# Altium schematic symbol library Module.SchLib: 13 symbols
Pins are listed as number, name and electrical type; pins without a type are passive.

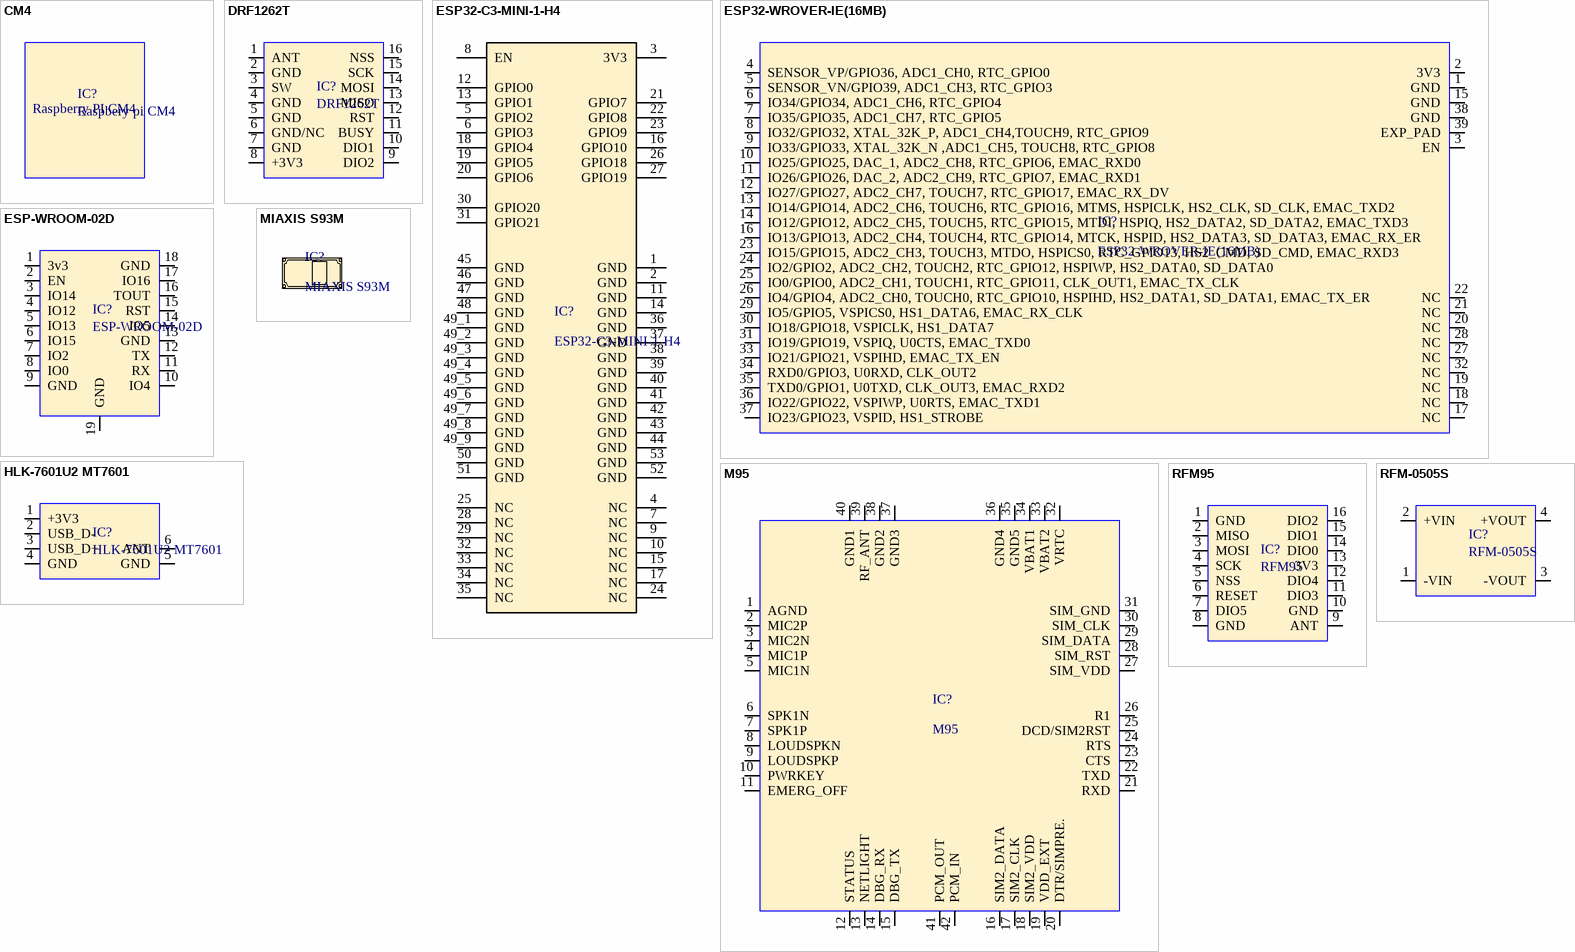
[diagram p0: symbols CM4 to RFM-0505S]

## CM4
designator IC?, comment Raspbery pi CM4
Purpose Of Usage: BASIC; Category: MODULE; Mount: MECH; Stock ID: ??; Sub-Category: SOM
footprint CM4_BOARD_SIDE
text: Raspberry PI CM4

## DRF1262T
designator IC?
SX1262 LORA MODUL DORJI; Purpose Of Usage: BASIC; Category: MODULE; Mount: SMD; Stock ID: ??; Sub-Category: LO-RA MODUL
footprint DRF1262T
pins: 1 ANT, 2 GND, 3 SW, 4 GND, 5 GND, 6 GND/NC, 7 GND, 8 +3V3, 9 DIO2, 10 DIO1, 11 BUSY, 12 RST, 13 MISO, 14 MOSI, 15 SCK, 16 NSS

## ESP32-C3-MINI-1-H4
designator IC?
Multiprotocol Modules SMD module, ESP32-C3FH4, PCB antenna, -40 C +105 C; Manufacturer: Espressif Systems; Purpose Of Usage: BASIC; Manufacturer Part Number: ESP32-C3-MINI-1-H4; Category: MODULE; Local Supplier: FUTURE; Max Operating Temperature: 105°C; Min Operating Temperature: -40°C; Mount: SMD; Price 10K: 1.5; RoHS: Yes; Stock ID: ??; Sub-Category: WI-FI MODUL; Supplier 1: Digi-Key; Supplier Part Number 1: 1965-ESP32-C3-MINI-1-H4CT-ND
footprint ESP32-C3-MINI-1-N4
pins: 1 GND (power), 2 GND (power), 3 3V3 (power), 4 NC, 5 GPIO2, 6 GPIO3, 7 NC, 8 EN, 9 NC, 10 NC, 11 GND (power), 12 GPIO0, 13 GPIO1, 14 GND (power), 15 NC, 16 GPIO10, 17 NC, 18 GPIO4, 19 GPIO5, 20 GPIO6, 21 GPIO7, 22 GPIO8, 23 GPIO9, 24 NC, 25 NC, 26 GPIO18, 27 GPIO19, 28 NC, 29 NC, 30 GPIO20, 31 GPIO21, 32 NC, 33 NC, 34 NC, 35 NC, 36 GND (power), 37 GND (power), 38 GND (power), 39 GND (power), 40 GND (power), 41 GND (power), 42 GND (power), 43 GND (power), 44 GND (power), 45 GND (power), 46 GND (power), 47 GND (power), 48 GND (power), 49_1 GND (power), 49_2 GND (power), 49_3 GND (power), 49_4 GND (power), 49_5 GND (power), 49_6 GND (power), 49_7 GND (power), 49_8 GND (power), 49_9 GND (power), 50 GND (power), 51 GND (power), 52 GND (power), 53 GND (power)

## ESP32-WROVER-IE(16MB)
designator IC?
Manufacturer: Espressif Systems; Purpose Of Usage: BASIC; Supplier 1: Digi-Key; Manufacturer Part Number: ESP32-WROVER-IE(16MB); RoHS: No; Supplier Part Number 1: 1965-ESP32-WROVER-IE(16MB)DKR-ND; Category: MODULE; Mount: SMD; Stock ID: ??; Sub-Category: WI-FI MODUL
footprint ESP32_WROVER-IE (ESP32-WROVER-IE)
pins: 1 GND, 2 3V3, 3 EN, 4 SENSOR_VP/GPIO36, ADC1_CH0, RTC_GPIO0, 5 SENSOR_VN/GPIO39, ADC1_CH3, RTC_GPIO3, 6 IO34/GPIO34, ADC1_CH6, RTC_GPIO4, 7 IO35/GPIO35, ADC1_CH7, RTC_GPIO5, 8 IO32/GPIO32, XTAL_32K_P, ADC1_CH4,TOUCH9, RTC_GPIO9, 9 IO33/GPIO33, XTAL_32K_N ,ADC1_CH5, TOUCH8, RTC_GPIO8, 10 IO25/GPIO25, DAC_1, ADC2_CH8, RTC_GPIO6, EMAC_RXD0, 11 IO26/GPIO26, DAC_2, ADC2_CH9, RTC_GPIO7, EMAC_RXD1, 12 IO27/GPIO27, ADC2_CH7, TOUCH7, RTC_GPIO17, EMAC_RX_DV, 13 IO14/GPIO14, ADC2_CH6, TOUCH6, RTC_GPIO16, MTMS, HSPICLK, HS2_CLK, SD_CLK, EMAC_TXD2, 14 IO12/GPIO12, ADC2_CH5, TOUCH5, RTC_GPIO15, MTDI, HSPIQ, HS2_DATA2, SD_DATA2, EMAC_TXD3, 15 GND, 16 IO13/GPIO13, ADC2_CH4, TOUCH4, RTC_GPIO14, MTCK, HSPID, HS2_DATA3, SD_DATA3, EMAC_RX_ER, 17 NC, 18 NC, 19 NC, 20 NC, 21 NC, 22 NC, 23 IO15/GPIO15, ADC2_CH3, TOUCH3, MTDO, HSPICS0, RTC_GPIO13, HS2_CMD, SD_CMD, EMAC_RXD3, 24 IO2/GPIO2, ADC2_CH2, TOUCH2, RTC_GPIO12, HSPIWP, HS2_DATA0, SD_DATA0, 25 IO0/GPIO0, ADC2_CH1, TOUCH1, RTC_GPIO11, CLK_OUT1, EMAC_TX_CLK, 26 IO4/GPIO4, ADC2_CH0, TOUCH0, RTC_GPIO10, HSPIHD, HS2_DATA1, SD_DATA1, EMAC_TX_ER, 27 NC, 28 NC, 29 IO5/GPIO5, VSPICS0, HS1_DATA6, EMAC_RX_CLK, 30 IO18/GPIO18, VSPICLK, HS1_DATA7, 31 IO19/GPIO19, VSPIQ, U0CTS, EMAC_TXD0, 32 NC, 33 IO21/GPIO21, VSPIHD, EMAC_TX_EN, 34 RXD0/GPIO3, U0RXD, CLK_OUT2, 35 TXD0/GPIO1, U0TXD, CLK_OUT3, EMAC_RXD2, 36 IO22/GPIO22, VSPIWP, U0RTS, EMAC_TXD1, 37 IO23/GPIO23, VSPID, HS1_STROBE, 38 GND, 39 EXP_PAD

## ESP-WROOM-02D
designator IC?
Manufacturer: Espressif Systems; Manufacturer Part Number: ESP-WROOM-02D (4MB); Purpose Of Usage: BASIC; Supplier 1: Digi-Key; RoHS: No; Supplier Part Number 1: 1965-ESP-WROOM-02D(4MB)CT-ND; Category: MODULE; Mount: SMD; Stock ID: ??; Sub-Category: WI-FI MODUL
footprint ESP-WROOM-02D
pins: 1 3v3, 2 EN, 3 IO14, 4 IO12, 5 IO13, 6 IO15, 7 IO2, 8 IO0, 9 GND, 10 IO4, 11 RX, 12 TX, 13 GND, 14 IO5, 15 RST, 16 TOUT, 17 IO16, 18 GND, 19 GND

## HLK-7601U2 MT7601
designator IC?
USB WIFI; Purpose Of Usage: BASIC; Category: MODULE; Mount: SMD; Stock ID: ??; Sub-Category: USB to  WI-FI MODULE
footprint HLK-7601U2 (USB WIFI)
pins: 1 +3V3, 2 USB_D-, 3 USB_D+, 4 GND, 5 GND, 6 ANT

## M95
designator IC?
GSM MODEM; Manufacturer: Quectel Wireless Solutions; Manufacturer Part Number: M95FA-03-STD; Purpose Of Usage: BASIC; RoHS: Yes; Case/Package: LCC; Min Operating Temperature: -40°C; Max Operating Temperature: 85°C; Category: MODULE; Mount: SMD; Stock ID: ??; Sub-Category: GSM MODEM
footprint M95
pins: 1 AGND, 2 MIC2P, 3 MIC2N, 4 MIC1P, 5 MIC1N, 6 SPK1N, 7 SPK1P, 8 LOUDSPKN, 9 LOUDSPKP, 10 PWRKEY, 11 EMERG_OFF, 12 STATUS, 13 NETLIGHT, 14 DBG_RX, 15 DBG_TX, 16 SIM2_DATA, 17 SIM2_CLK, 18 SIM2_VDD, 19 VDD_EXT, 20 DTR/SIMPRE., 21 RXD, 22 TXD, 23 CTS, 24 RTS, 25 DCD/SIM2RST, 26 R1, 27 SIM_VDD, 28 SIM_RST, 29 SIM_DATA, 30 SIM_CLK, 31 SIM_GND, 32 VRTC, 33 VBAT2, 34 VBAT1, 35 GND5, 36 GND4, 37 GND3, 38 GND2, 39 RF_ANT, 40 GND1, 41 PCM_OUT, 42 PCM_IN

## MIAXIS S93M
designator IC?
FAP30 Finger Print Sensor; Manufacturer Part Number: SM-93M; Purpose Of Usage: BASIC; Category: MODULE; Local Supplier: MIAXIS; Manufacturer: MIAXIS; Mount: MECH; Price 10K: 39.5; Stock ID: ??; Sub-Category: FINGER PRINT SENSOR
footprint MIAXIS S93M

## RFM95
designator IC?
RFM95 ULTRA-LONG RANGE TRANSCEIV; Manufacturer: Seeed Studio; Manufacturer Part Number: 109990166; Purpose Of Usage: BASIC; Supplier 1: Digi-Key; RoHS: No; Supplier Part Number 1: 1597-1488-ND; Category: MODULE; Mount: SMD; Stock ID: ??; Sub-Category: LO-RA MODUL
footprint RFM95
pins: 1 GND, 2 MISO, 3 MOSI, 4 SCK, 5 NSS, 6 RESET, 7 DIO5, 8 GND, 9 ANT, 10 GND, 11 DIO3, 12 DIO4, 13 3V3, 14 DIO0, 15 DIO1, 16 DIO2

## RFM-0505S
designator IC?
RECOM POWER - RFM-0505S - Isolated Board Mount DC/DC Converter, ITE & General, 1 Output, 1 W, 5 V, 200 mA; Purpose Of Usage: BASIC; Supplier 1: Digi-Key; Manufacturer: Recom; Manufacturer Part Number: RFM-0505S; RoHS: No; Supplier Part Number 1: 945-3159-ND; Category: MODULE; Mount: SMD; Stock ID: ??; Sub-Category: DC-DC CONVERTERS
footprint RFM-0505S (dc-dc modul)
pins: 1 -VIN, 2 +VIN, 3 -VOUT, 4 +VOUT

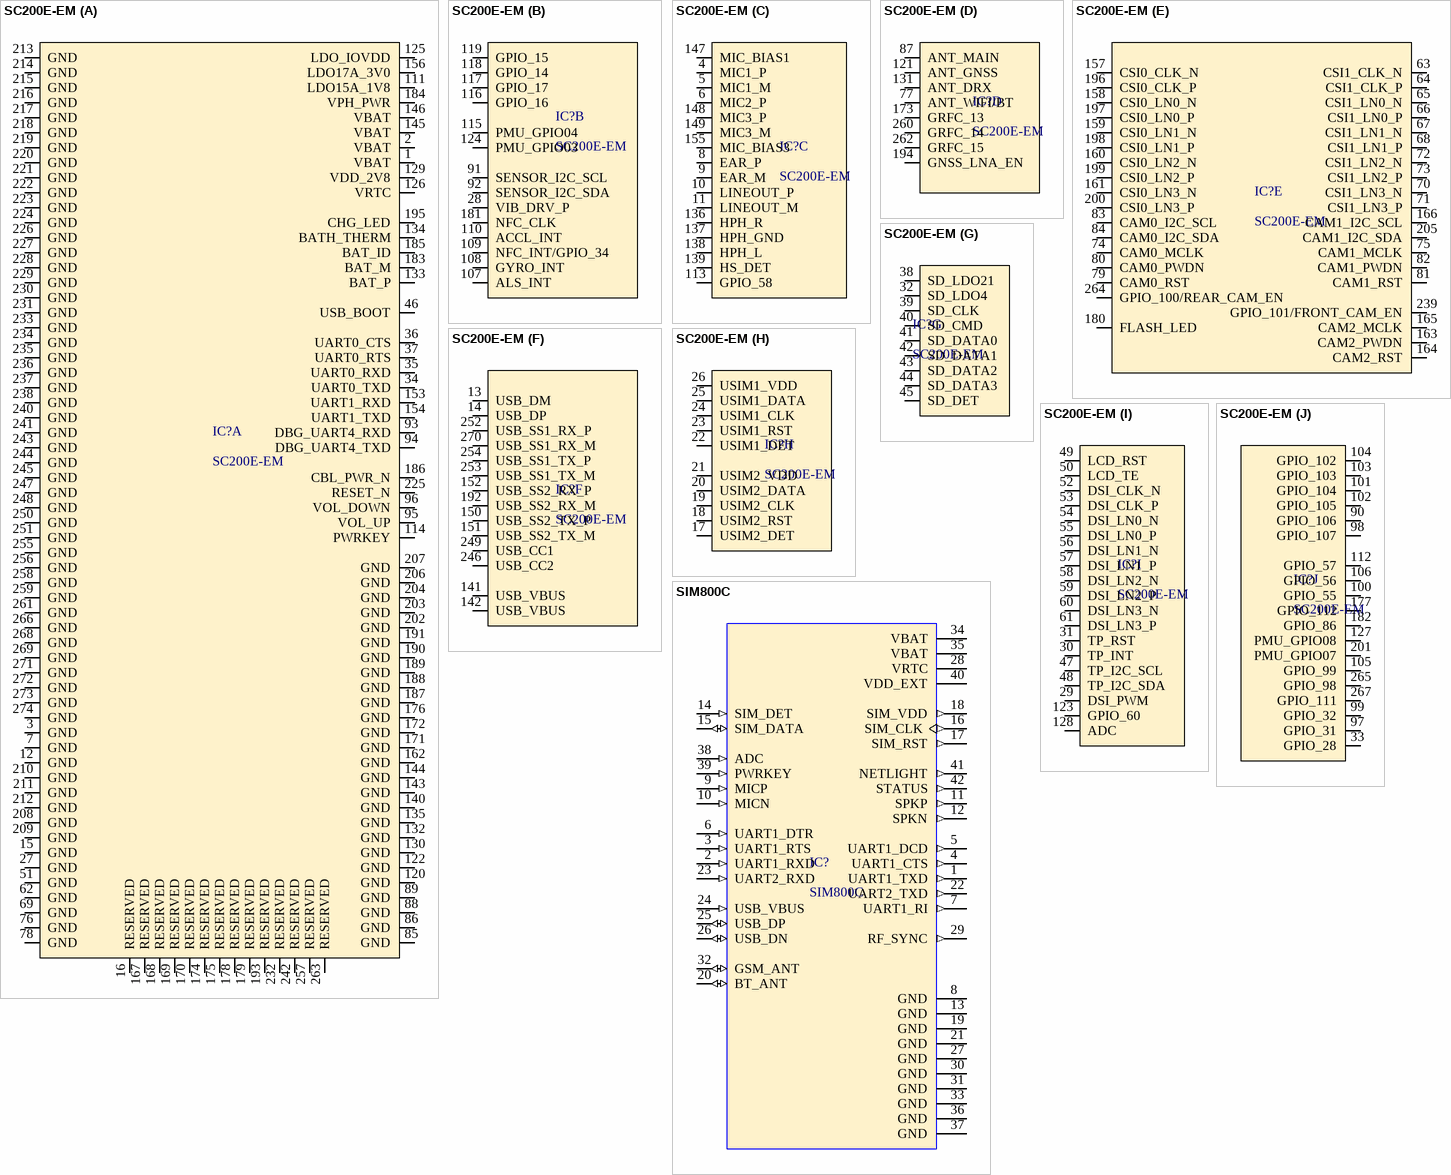
[diagram p1: symbols SC200E-EM to SIM800C]

## SC200E-EM
designator IC?
Multi-mode Smart LTE Module / with Wi-Fi & Bluetooth; Manufacturer: Quectel; Purpose Of Usage: BASIC; Category: MODULE; Manufacturer Part Number: SC200E-EM; Mount: SMD; Stock ID: ??; Local Supplier: AVNET; Price 10K: 42; Sub-Category: SOM
footprint SC200E
part A pins: 1 VBAT (power) "Power supply for the / module", 2 VBAT (power) "Power supply for the / module", 3 GND (power) "Ground", 7 GND (power) "Ground", 12 GND (power) "Ground", 15 GND (power) "Ground", 16 RESERVED "Unconnected", 27 GND (power) "Ground", 34 UART0_TXD "UART0 transmit", 35 UART0_RXD "UART0 receive", 36 UART0_CTS "DCE clear to send signal from DTE", 37 UART0_RTS "DCE request to send signal to DTE", 46 USB_BOOT "Force the module into emergency download mode", 51 GND (power) "Ground", 62 GND (power) "Ground", 69 GND (power) "Ground", 76 GND (power) "Ground", 78 GND (power) "Ground", 85 GND (power) "Ground", 86 GND (power) "Ground", 88 GND (power) "Ground", 89 GND (power) "Ground", 93 DBG_UART4_RXD "Debug UART receive", 94 DBG_UART4_TXD "Debug UART transmit", 95 VOL_UP "Volume up", 96 VOL_DOWN "Volume down", 111 LDO15A_1V8 (power) "1.8 V output", 114 PWRKEY "Turn on/off the module", 120 GND (power) "Ground", 122 GND (power) "Ground", 125 LDO_IOVDD (power) "1.8V Output", 126 VRTC (power) "Power supply for RTC", 129 VDD_2V8 (power) "2.8 V output", 130 GND (power) "Ground", 132 GND (power) "Ground", 133 BAT_P "Battery voltage detect (+)", 134 BATH_THERM "Battery temperature detech", 135 GND (power) "Ground", 140 GND (power) "Ground", 143 GND (power) "Ground", 144 GND (power) "Ground", 145 VBAT (power) "Power supply for the / module", 146 VBAT (power) "Power supply for the / module", 153 UART1_RXD "UART1 receive", 154 UART1_TXD "UART1 transmit", 156 LDO17A_3V0 (power) "3.0 V output", 162 GND (power) "Ground", 167 RESERVED "Unconnected", 168 RESERVED "Unconnected", 169 RESERVED "Unconnected", 170 RESERVED "Unconnected", 171 GND (power) "Ground", 172 GND (power) "Ground", 174 RESERVED "Unconnected", 175 RESERVED "Unconnected", 176 GND (power) "Ground", 178 RESERVED "Unconnected", 179 RESERVED "Unconnected", 183 BAT_M "Battery voltage detect (-)", 184 VPH_PWR (power) "Power supply for / peripherals", 185 BAT_ID "Battery type detect", 186 CBL_PWR_N "Initiate power-on when grounded", 187 GND (power) "Ground", 188 GND (power) "Ground", 189 GND (power) "Ground", 190 GND (power) "Ground", 191 GND (power) "Ground", 193 RESERVED "Unconnected", 195 CHG_LED "Indicate the module's charging status", 202 GND (power) "Ground", 203 GND (power) "Ground", 204 GND (power) "Ground", 206 GND (power) "Ground", 207 GND (power) "Ground", 208 GND (power) "Ground", 209 GND (power) "Ground", 210 GND (power) "Ground", 211 GND (power) "Ground", 212 GND (power) "Ground", 213 GND (power) "Ground", 214 GND (power) "Ground", 215 GND (power) "Ground", 216 GND (power) "Ground", 217 GND (power) "Ground", 218 GND (power) "Ground", 219 GND (power) "Ground", 220 GND (power) "Ground", 221 GND (power) "Ground", 222 GND (power) "Ground", 223 GND (power) "Ground", 224 GND (power) "Ground", 225 RESET_N "Reset the module", 226 GND (power) "Ground", 227 GND (power) "Ground", 228 GND (power) "Ground", 229 GND (power) "Ground", 230 GND (power) "Ground", 231 GND (power) "Ground", 232 RESERVED "Unconnected", 233 GND (power) "Ground", 234 GND (power) "Ground", 235 GND (power) "Ground", 236 GND (power) "Ground", 237 GND (power) "Ground", 238 GND (power) "Ground", 240 GND (power) "Ground", 241 GND (power) "Ground", 242 RESERVED "Unconnected", 243 GND (power) "Ground", 244 GND (power) "Ground", 245 GND (power) "Ground", 247 GND (power) "Ground", 248 GND (power) "Ground", 250 GND (power) "Ground", 251 GND (power) "Ground", 255 GND (power) "Ground", 256 GND (power) "Ground", 257 RESERVED "Unconnected", 258 GND (power) "Ground", 259 GND (power) "Ground", 261 GND (power) "Ground", 263 RESERVED "Unconnected", 266 GND (power) "Ground", 268 GND (power) "Ground", 269 GND (power) "Ground", 271 GND (power) "Ground", 272 GND (power) "Ground", 273 GND (power) "Ground", 274 GND (power) "Ground"
part B pins: 28 VIB_DRV_P "Vibration motor driver output control", 91 SENSOR_I2C_SCL "I2C clock for external", 92 SENSOR_I2C_SDA "I2C data for external", 107 ALS_INT "General-purpose input/output", 108 GYRO_INT "General-purpose input/output", 109 NFC_INT/GPIO_34 "General-purpose input/output", 110 ACCL_INT "General-purpose input/output", 115 PMU_GPIO04 "General-purpose input/output", 116 GPIO_16 "General-purpose input/output", 117 GPIO_17 "General-purpose input/output", 118 GPIO_14 "General-purpose input/output", 119 GPIO_15 "General-purpose input/output", 124 PMU_GPIO03 "General-purpose input/output", 181 NFC_CLK "NFC clock"
part C pins: 4 MIC1_P "Microphone input for channel 1 (+)", 5 MIC1_M "Microphone input for channel 1 (-)", 6 MIC2_P "Microphone input for headset (+)", 8 EAR_P "Earpiece output (+)", 9 EAR_M "Earpiece output (-)", 10 LINEOUT_P "Audio line differential output (+)", 11 LINEOUT_M "Audio line differential output (-)", 113 GPIO_58 "General-purpose input/output", 136 HPH_R "Headphone right channel output", 137 HPH_GND "Headphone right channel ground", 138 HPH_L "Headphone left channel output", 139 HS_DET "Headphone left channel ground", 147 MIC_BIAS1 "Bias voltage 1 output for microphone", 148 MIC3_P "Microphone input for channel 3 (+)", 149 MIC3_M "Microphone input for channel 3 (-)", 155 MIC_BIAS3 "Bias voltage 3 output for microphone"
part D pins: 77 ANT_WIFI/BT "Wi-Fi/Bluetooth antenna", 87 ANT_MAIN "Main antenna interface", 121 ANT_GNSS "GNSS antenna interface", 131 ANT_DRX "Diversity antenna", 173 GRFC_13 "Generic RF controller", 194 GNSS_LNA_EN "GNSS LNA enable control", 260 GRFC_14 "Generic RF controller", 262 GRFC_15 "Generic RF controller"
part E pins: 63 CSI1_CLK_N "MIPI CSI1 clock (-)", 64 CSI1_CLK_P "MIPI CSI1 clock (+)", 65 CSI1_LN0_N "MIPI CSI1 lane 0 data (-)", 66 CSI1_LN0_P "MIPI CSI1 lane 0 data (+)", 67 CSI1_LN1_N "MIPI CSI1 lane 1 data (-)", 68 CSI1_LN1_P "MIPI CSI1 lane 1 data (+)", 70 CSI1_LN3_N "MIPI CSI1 lane 3 data (-)", 71 CSI1_LN3_P "MIPI CSI1 lane 3 data (+)", 72 CSI1_LN2_N "MIPI CSI1 lane 2 data (-)", 73 CSI1_LN2_P "MIPI CSI1 lane 2 data (+)", 74 CAM0_MCLK "Master clock of camera", 75 CAM1_MCLK "Master clock of camera", 79 CAM0_RST "Reset of camera 0", 80 CAM0_PWDN "Power down of camera 0", 81 CAM1_RST "Reset of camera 1", 82 CAM1_PWDN "Power down of camera 1", 83 CAM0_I2C_SCL "I2C clock of camera 0", 84 CAM0_I2C_SDA "I2C data of camera 0", 157 CSI0_CLK_N "MIPI CSI0 clock (-)", 158 CSI0_LN0_N "MIPI CSI0 lane 0 data (-)", 159 CSI0_LN1_N "MIPI CSI0 lane 1 data (-)", 160 CSI0_LN2_N "MIPI CSI0 lane 2 data (-)", 161 CSI0_LN3_N "MIPI CSI0 lane 3 data (-)", 163 CAM2_PWDN "Power down of camera 2", 164 CAM2_RST "Reset of camera 2", 165 CAM2_MCLK "Master clock of camera 2", 166 CAM1_I2C_SCL "I2C clock of camera 1", 180 FLASH_LED "Flash/torch driver output", 196 CSI0_CLK_P "MIPI CSI0 clock (+)", 197 CSI0_LN0_P "MIPI CSI0 lane 0 data (+)", 198 CSI0_LN1_P "MIPI CSI0 lane 1 data (+)", 199 CSI0_LN2_P "MIPI CSI0 lane 2 data (+)", 200 CSI0_LN3_P "MIPI CSI0 lane 3 data (+)", 205 CAM1_I2C_SDA "I2C data of camera 1", 239 GPIO_101/FRONT_CAM_EN "General-purpose input/output", 264 GPIO_100/REAR_CAM_EN "General-purpose input/output"
part F pins: 13 USB_DM "USB differential data (-)", 14 USB_DP "USB differential data (+)", 141 USB_VBUS "Charcing power input.", 142 USB_VBUS "Charcing power input.", 150 USB_SS2_TX_P "USB 3.1 channel 2 superspeed transmit (+)", 151 USB_SS2_TX_M "USB 3.1 channel 2 superspeed transmit (-)", 152 USB_SS2_RX_P "USB 3.1 channel 2 superspeed receive (+)", 192 USB_SS2_RX_M "USB 3.1 channel 2 superspeed receive (-)", 246 USB_CC2 "USB Type-C detect 2", 249 USB_CC1 "USB Type-C detect 1", 252 USB_SS1_RX_P "USB 3.1 channel 1 superspeed receive (+)", 253 USB_SS1_TX_M "USB 3.1 channel 1 superspeed transmit (-)", 254 USB_SS1_TX_P "USB 3.1 channel 1 superspeed transmit (+)", 270 USB_SS1_RX_M "USB 3.1 channel 1 superspeed receive (-)"
part G pins: 32 SD_LDO4 "1.8/2.95V output power for SD card pull-up circuits", 38 SD_LDO21 "SD card power supply", 39 SD_CLK "SD card clock", 40 SD_CMD "SD card command", 41 SD_DATA0 "SDIO data bit 0", 42 SD_DATA1 "SDIO data bit 1", 43 SD_DATA2 "SDIO data bit 2", 44 SD_DATA3 "SDIO data bit 3", 45 SD_DET "SD card hot-plug detect"
part H pins: 17 USIM2_DET "detect", 18 USIM2_RST "(U)SIM2 card reset", 19 USIM2_CLK "(U)SIM2 card clock", 20 USIM2_DATA "(U)SIM2 card data", 21 USIM2_VDD "(U) SIM2 card power supply", 22 USIM1_DET "(U)SIM1 card detect", 23 USIM1_RST "(U)SIM1 card reset", 24 USIM1_CLK "(U)SIM1 card clock", 25 USIM1_DATA "(U)SIM1 card data", 26 USIM1_VDD "(U) SIM1 card power supply"
part I pins: 29 DSI_PWM "PWM output", 30 TP_INT "TP interrupt", 31 TP_RST "TP reset", 47 TP_I2C_SCL "TP I2C clock", 48 TP_I2C_SDA "TP I2C data", 49 LCD_RST "LCD reset", 50 LCD_TE "LCD tearing effect", 52 DSI_CLK_N "LCD MIPI clock (-)", 53 DSI_CLK_P "LCD MIPI clock (+)", 54 DSI_LN0_N "LCD MIPI lane 0 data (-)", 55 DSI_LN0_P "LCD MIPI lane 0 data (+)", 56 DSI_LN1_N "LCD MIPI lane 1 data (-)", 57 DSI_LN1_P "LCD MIPI lane 1 data (+)", 58 DSI_LN2_N "LCD MIPI lane 2 data (-)", 59 DSI_LN2_P "LCD MIPI lane 2 data (+)", 60 DSI_LN3_N "LCD MIPI lane 3 data (-)", 61 DSI_LN3_P "LCD MIPI lane 3 data (+)", 123 GPIO_60 "General-purpose input/output", 128 ADC "General-purpose ADC interface"
part J pins: 33 GPIO_28 "General-purpose input/output", 90 GPIO_106 "General-purpose input/output", 97 GPIO_31 "General-purpose input/output", 98 GPIO_107 "General-purpose input/output", 99 GPIO_32 "General-purpose input/output", 100 GPIO_55 "General-purpose input/output", 101 GPIO_104 "General-purpose input/output", 102 GPIO_105 "General-purpose input/output", 103 GPIO_103 "General-purpose input/output", 104 GPIO_102 "General-purpose input/output", 105 GPIO_99 "General-purpose input/output", 106 GPIO_56 "General-purpose input/output", 112 GPIO_57 "General-purpose input/output", 127 PMU_GPIO08 "General-purpose input/output", 177 GPIO_112 "General-purpose input/output", 182 GPIO_86 "General-purpose input/output", 201 PMU_GPIO07 "General-purpose input/output", 265 GPIO_98 "General-purpose input/output", 267 GPIO_111 "General-purpose input/output"

## SIM800C
designator IC?
Modem SIM800C GSM/GPRS (850/900/1800/1900MHz)/SIMCOM /RoHS; Manufacturer: Simcom; Purpose Of Usage: BASIC; Manufacturer Part Number: SIM800C; RoHS: Yes; Category: MODULE; Mount: SMD; Stock ID: ??; Sub-Category: GSM MODEM
footprint SIM800C
pins: 1 UART1_TXD (out), 2 UART1_RXD (in), 3 UART1_RTS (in), 4 UART1_CTS (out), 5 UART1_DCD (out), 6 UART1_DTR (in), 7 UART1_RI (out), 8 GND (power), 9 MICP (in), 10 MICN (in), 11 SPKP (out), 12 SPKN (out), 13 GND (power), 14 SIM_DET (in), 15 SIM_DATA (io), 16 SIM_CLK (out), 17 SIM_RST (out), 18 SIM_VDD (out), 19 GND (power), 20 BT_ANT (io), 21 GND (power), 22 UART2_TXD (out), 23 UART2_RXD (in), 24 USB_VBUS (in), 25 USB_DP (io), 26 USB_DN (io), 27 GND (power), 28 VRTC (power), 29 RF_SYNC (out), 30 GND (power), 31 GND (power), 32 GSM_ANT (io), 33 GND (power), 34 VBAT (power), 35 VBAT (power), 36 GND (power), 37 GND (power), 38 ADC (in), 39 PWRKEY (in), 40 VDD_EXT (power), 41 NETLIGHT (out), 42 STATUS (out)

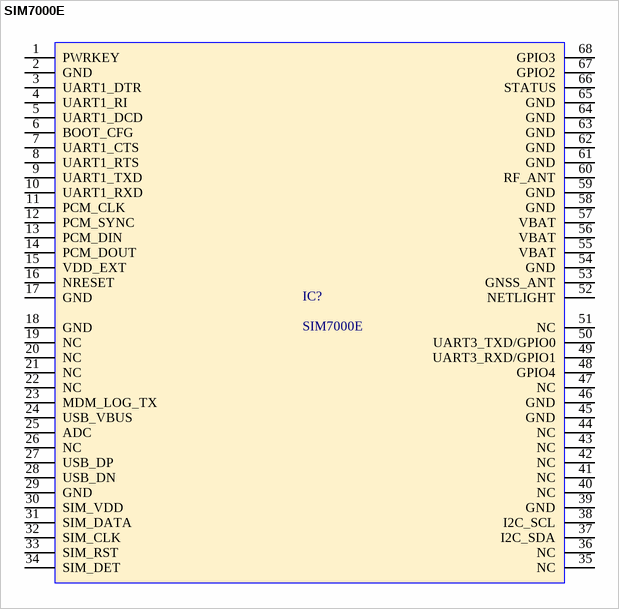
[diagram p2: symbol SIM7000E]

## SIM7000E
designator IC?
eMTC/NB-IoT/EDGE Module 700MHz/800MHz/850MHz/900MHz/1700MHz/1800MHz/1900MHz/2100MHz 3.8V LCC; Manufacturer: Simcom; Purpose Of Usage: BASIC; Supplier 1: Avnet; Manufacturer Part Number: SIM7000E; RoHS: Yes; Category: MODULE; Mount: SMD; Stock ID: ??; Sub-Category: GSM MODEM
footprint SIM7000E
pins: 1 PWRKEY, 2 GND, 3 UART1_DTR, 4 UART1_RI, 5 UART1_DCD, 6 BOOT_CFG, 7 UART1_CTS, 8 UART1_RTS, 9 UART1_TXD, 10 UART1_RXD, 11 PCM_CLK, 12 PCM_SYNC, 13 PCM_DIN, 14 PCM_DOUT, 15 VDD_EXT, 16 NRESET, 17 GND, 18 GND, 19 NC, 20 NC, 21 NC, 22 NC, 23 MDM_LOG_TX, 24 USB_VBUS, 25 ADC, 26 NC, 27 USB_DP, 28 USB_DN, 29 GND, 30 SIM_VDD, 31 SIM_DATA, 32 SIM_CLK, 33 SIM_RST, 34 SIM_DET, 35 NC, 36 NC, 37 I2C_SDA, 38 I2C_SCL, 39 GND, 40 NC, 41 NC, 42 NC, 43 NC, 44 NC, 45 GND, 46 GND, 47 NC, 48 GPIO4, 49 UART3_RXD/GPIO1, 50 UART3_TXD/GPIO0, 51 NC, 52 NETLIGHT, 53 GNSS_ANT, 54 GND, 55 VBAT, 56 VBAT, 57 VBAT, 58 GND, 59 GND, 60 RF_ANT, 61 GND, 62 GND, 63 GND, 64 GND, 65 GND, 66 STATUS, 67 GPIO2, 68 GPIO3